# Altium footprint library EQFP176.PcbLib: 1 footprints
Each footprint in its own frame and in the unit in brackets; x right, y up, seen from the top. Pads: shape width x height; smd on the part's side, far side on the other; paste and mask are expansions set on the pad; w line width, h text height; cw(c..) or ccw(c..) is an arc to the next point about the centre after c.
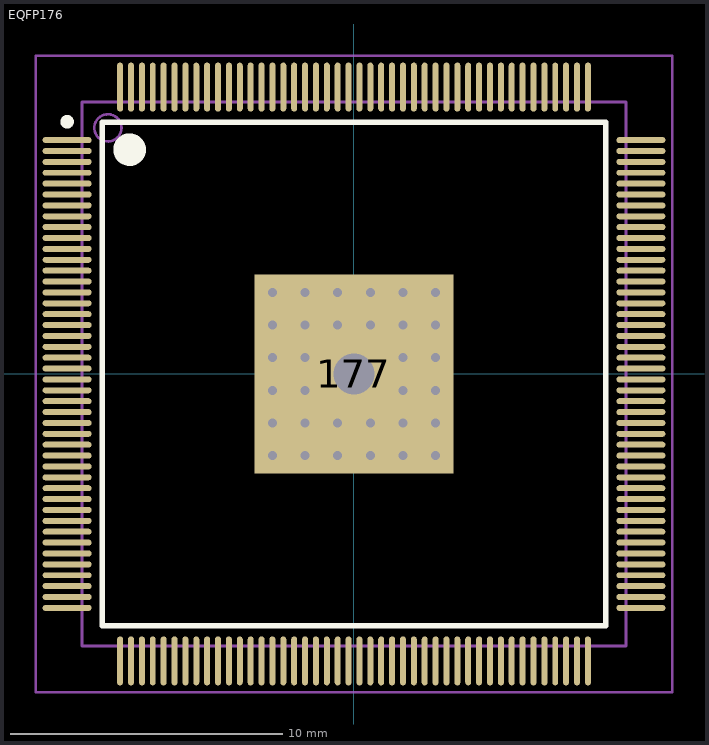
[diagram p0: the footprint, top view; thin cyan lines are the x and y axes]

## EQFP176 [mm]
pads (177):
  oval 1.8x0.22 smd: 1(-10.55,8.6) 2(-10.55,8.2) 3(-10.55,7.8) 4(-10.55,7.4) 5(-10.55,7) 6(-10.55,6.6) 7(-10.55,6.2) 8(-10.55,5.8) 9(-10.55,5.4) 10(-10.55,5) 11(-10.55,4.6) 12(-10.55,4.2) 13(-10.55,3.8) 14(-10.55,3.4) 15(-10.55,3) 16(-10.55,2.6) 17(-10.55,2.2) 18(-10.55,1.8) 19(-10.55,1.4) 20(-10.55,1) 21(-10.55,0.6) 22(-10.55,0.2) 23(-10.55,-0.2) 24(-10.55,-0.6) 25(-10.55,-1) 26(-10.55,-1.4) 27(-10.55,-1.8) 28(-10.55,-2.2) 29(-10.55,-2.6) 30(-10.55,-3) 31(-10.55,-3.4) 32(-10.55,-3.8) 33(-10.55,-4.2) 34(-10.55,-4.6) 35(-10.55,-5) 36(-10.55,-5.4) 37(-10.55,-5.8) 38(-10.55,-6.2) 39(-10.55,-6.6) 40(-10.55,-7) 41(-10.55,-7.4) 42(-10.55,-7.8) 43(-10.55,-8.2) 44(-10.55,-8.6) 89(10.55,-8.6) 90(10.55,-8.2) 91(10.55,-7.8) 92(10.55,-7.4) 93(10.55,-7) 94(10.55,-6.6) 95(10.55,-6.2) 96(10.55,-5.8) 97(10.55,-5.4) 98(10.55,-5) 99(10.55,-4.6) 100(10.55,-4.2) 101(10.55,-3.8) 102(10.55,-3.4) 103(10.55,-3) 104(10.55,-2.6) 105(10.55,-2.2) 106(10.55,-1.8) 107(10.55,-1.4) 108(10.55,-1) 109(10.55,-0.6) 110(10.55,-0.2) 111(10.55,0.2) 112(10.55,0.6) 113(10.55,1) 114(10.55,1.4) 115(10.55,1.8) 116(10.55,2.2) 117(10.55,2.6) 118(10.55,3) 119(10.55,3.4) 120(10.55,3.8) 121(10.55,4.2) 122(10.55,4.6) 123(10.55,5) 124(10.55,5.4) 125(10.55,5.8) 126(10.55,6.2) 127(10.55,6.6) 128(10.55,7) 129(10.55,7.4) 130(10.55,7.8) 131(10.55,8.2) 132(10.55,8.6)
  oval 0.22x1.8 smd: 45(-8.6,-10.55) 46(-8.2,-10.55) 47(-7.8,-10.55) 48(-7.4,-10.55) 49(-7,-10.55) 50(-6.6,-10.55) 51(-6.2,-10.55) 52(-5.8,-10.55) 53(-5.4,-10.55) 54(-5,-10.55) 55(-4.6,-10.55) 56(-4.2,-10.55) 57(-3.8,-10.55) 58(-3.4,-10.55) 59(-3,-10.55) 60(-2.6,-10.55) 61(-2.2,-10.55) 62(-1.8,-10.55) 63(-1.4,-10.55) 64(-1,-10.55) 65(-0.6,-10.55) 66(-0.2,-10.55) 67(0.2,-10.55) 68(0.6,-10.55) 69(1,-10.55) 70(1.4,-10.55) 71(1.8,-10.55) 72(2.2,-10.55) 73(2.6,-10.55) 74(3,-10.55) 75(3.4,-10.55) 76(3.8,-10.55) 77(4.2,-10.55) 78(4.6,-10.55) 79(5,-10.55) 80(5.4,-10.55) 81(5.8,-10.55) 82(6.2,-10.55) 83(6.6,-10.55) 84(7,-10.55) 85(7.4,-10.55) 86(7.8,-10.55) 87(8.2,-10.55) 88(8.6,-10.55) 133(8.6,10.55) 134(8.2,10.55) 135(7.8,10.55) 136(7.4,10.55) 137(7,10.55) 138(6.6,10.55) 139(6.2,10.55) 140(5.8,10.55) 141(5.4,10.55) 142(5,10.55) 143(4.6,10.55) 144(4.2,10.55) 145(3.8,10.55) 146(3.4,10.55) 147(3,10.55) 148(2.6,10.55) 149(2.2,10.55) 150(1.8,10.55) 151(1.4,10.55) 152(1,10.55) 153(0.6,10.55) 154(0.2,10.55) 155(-0.2,10.55) 156(-0.6,10.55) 157(-1,10.55) 158(-1.4,10.55) 159(-1.8,10.55) 160(-2.2,10.55) 161(-2.6,10.55) 162(-3,10.55) 163(-3.4,10.55) 164(-3.8,10.55) 165(-4.2,10.55) 166(-4.6,10.55) 167(-5,10.55) 168(-5.4,10.55) 169(-5.8,10.55) 170(-6.2,10.55) 171(-6.6,10.55) 172(-7,10.55) 173(-7.4,10.55) 174(-7.8,10.55) 175(-8.2,10.55) 176(-8.6,10.55)
  rect 7.3x7.3 smd: 177(0,0)
via 0,0 diameter 2.5 hole 1.5
via 3,-3 diameter 0.66 hole 0.33
via 1.8,-3 diameter 0.66 hole 0.33
via 0.6,-3 diameter 0.66 hole 0.33
via -0.6,-3 diameter 0.66 hole 0.33
via -1.8,-3 diameter 0.66 hole 0.33
via -3,-3 diameter 0.66 hole 0.33
via 3,-1.8 diameter 0.66 hole 0.33
via 1.8,-1.8 diameter 0.66 hole 0.33
via 0.6,-1.8 diameter 0.66 hole 0.33
via -0.6,-1.8 diameter 0.66 hole 0.33
via -1.8,-1.8 diameter 0.66 hole 0.33
via -3,-1.8 diameter 0.66 hole 0.33
via 3,-0.6 diameter 0.66 hole 0.33
via 1.8,-0.6 diameter 0.66 hole 0.33
via -1.8,-0.6 diameter 0.66 hole 0.33
via -3,-0.6 diameter 0.66 hole 0.33
via 3,0.6 diameter 0.66 hole 0.33
via 1.8,0.6 diameter 0.66 hole 0.33
via -1.8,0.6 diameter 0.66 hole 0.33
via -3,0.6 diameter 0.66 hole 0.33
via 3,1.8 diameter 0.66 hole 0.33
via 1.8,1.8 diameter 0.66 hole 0.33
via 0.6,1.8 diameter 0.66 hole 0.33
via -0.6,1.8 diameter 0.66 hole 0.33
via -1.8,1.8 diameter 0.66 hole 0.33
via -3,1.8 diameter 0.66 hole 0.33
via 3,3 diameter 0.66 hole 0.33
via 1.8,3 diameter 0.66 hole 0.33
via 0.6,3 diameter 0.66 hole 0.33
via -0.6,3 diameter 0.66 hole 0.33
via -1.8,3 diameter 0.66 hole 0.33
via -3,3 diameter 0.66 hole 0.33
Top Overlay:
  circle w0.6: c-8.25,8.25 r0.3
  circle w0.25: c-10.55,9.275 r0.125
  lines w0.2: -9.25,-9.25 9.25,-9.25 9.25,9.25 -9.25,9.25 -9.25,-9.25
Mechanical 13:
  circle w0.1: c-9.05,9.05 r0.5
  lines w0.1: -10,-10 10,-10 10,10 -10,10 -10,-10
Mechanical 15:
  lines w0.1: -0.5,0 0.5,0 ; 0,-0.5 0,0.5 ; -11.7,-11.7 11.7,-11.7 11.7,11.7 -11.7,11.7 -11.7,-11.7
3D body: height 1.6, standoff 0.15, extent -10,-10 10,10